# Altium schematic symbol library Transistor.SchLib: 9 symbols
Pins are listed as number, name and electrical type; pins without a type are passive.

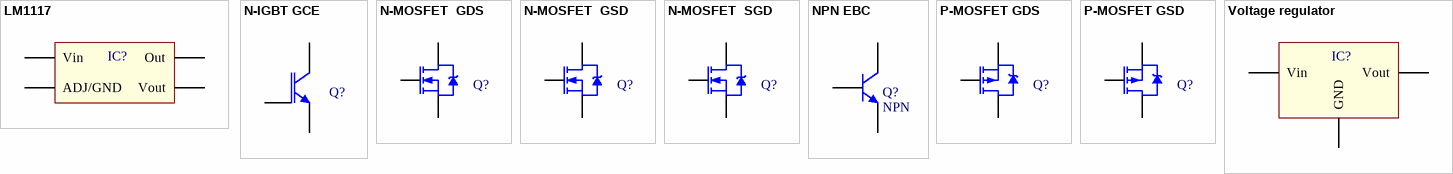
[diagram p0: symbols LM1117 to Voltage regulator]

## LM1117
designator IC?
Voltage regulator
footprint SOT 223 (SOT-223/SC-73; 4 Leads; Body 6.7 x 7.3 mm, inc. leads (LxW max))
pins: 1 ADJ/GND (power), 2 Out (power), 3 Vin (power), 4 Vout (power)

## N-IGBT GCE
designator Q?  (value not drawn)
footprint TO 220 (TO, Thru-Hole, Vertical, Heatsink Mounted; 3 In-Line Leads; Pitch 2.67 mm)
footprint TO 92 (TO, Flat Index; 3 In-Line, Axial Leads; Body Dia. 4.7mm; Leads 0.56 x 0.51 mm (max))
footprint SOT 23 (SOT23, 3-Leads, Body 2.9x1.3mm, Pitch 0.95mm, Lead Span 2.3mm - Reverse Pinning, IPC Low Density)
footprint TO 252AA (Surface moun; Pitch 2.28 mm)
footprint TO 251AA (TO, Thru-Hole, Vertical, 3 In-Line Leads; Pitch 2.28 mm)
pins: 1 G, 2 C, 3 E

## N-MOSFET  GDS
designator Q?, comment N-MOSFET  (value not drawn)
footprint TO 220 (TO, Thru-Hole, Vertical, Heatsink Mounted; 3 In-Line Leads; Pitch 2.67 mm)
footprint TO 92 (TO, Flat Index; 3 In-Line, Axial Leads; Body Dia. 4.7mm; Leads 0.56 x 0.51 mm (max))
footprint SOT 23 (SOT23, 3-Leads, Body 2.9x1.3mm, Pitch 0.95mm, Lead Span 2.3mm - Reverse Pinning, IPC Low Density)
footprint TO 252AA (Surface moun; Pitch 2.28 mm)
footprint TO 251AA (TO, Thru-Hole, Vertical, 3 In-Line Leads; Pitch 2.28 mm)
pins: 1 G, 2 D, 3 S

## N-MOSFET  GSD
designator Q?, comment N-MOSFET  (value not drawn)
footprint TO 220 (TO, Thru-Hole, Vertical, Heatsink Mounted; 3 In-Line Leads; Pitch 2.67 mm)
footprint TO 92 (TO, Flat Index; 3 In-Line, Axial Leads; Body Dia. 4.7mm; Leads 0.56 x 0.51 mm (max))
footprint SOT 23 (SOT23, 3-Leads, Body 2.9x1.3mm, Pitch 0.95mm, Lead Span 2.3mm - Reverse Pinning, IPC Low Density)
footprint TO 252AA (Surface moun; Pitch 2.28 mm)
footprint TO 251AA (TO, Thru-Hole, Vertical, 3 In-Line Leads; Pitch 2.28 mm)
pins: 1 G, 2 S, 3 D

## N-MOSFET  SGD
designator Q?, comment N-MOSFET  (value not drawn)
footprint TO 220 (TO, Thru-Hole, Vertical, Heatsink Mounted; 3 In-Line Leads; Pitch 2.67 mm)
footprint TO 92 (TO, Flat Index; 3 In-Line, Axial Leads; Body Dia. 4.7mm; Leads 0.56 x 0.51 mm (max))
footprint SOT 23 (SOT23, 3-Leads, Body 2.9x1.3mm, Pitch 0.95mm, Lead Span 2.3mm - Reverse Pinning, IPC Low Density)
footprint TO 252AA (Surface moun; Pitch 2.28 mm)
footprint TO 251AA (TO, Thru-Hole, Vertical, 3 In-Line Leads; Pitch 2.28 mm)
footprint PowerPAK SO
pins: 1 S, 2 G, 3 D

## NPN EBC
designator Q?, comment NPN
footprint TO 92 (TO, Flat Index; 3 In-Line, Axial Leads; Body Dia. 4.7mm; Leads 0.56 x 0.51 mm (max))
pins: 1 E, 2 B, 3 C

## P-MOSFET GDS
designator Q?, comment P-MOSFET  (value not drawn)
footprint TO 220 (TO, Thru-Hole, Vertical, Heatsink Mounted; 3 In-Line Leads; Pitch 2.67 mm)
footprint TO 92 (TO, Flat Index; 3 In-Line, Axial Leads; Body Dia. 4.7mm; Leads 0.56 x 0.51 mm (max))
footprint SOT 23 (SOT23, 3-Leads, Body 2.9x1.3mm, Pitch 0.95mm, Lead Span 2.3mm - Reverse Pinning, IPC Low Density)
footprint TO 251AA (TO, Thru-Hole, Vertical, 3 In-Line Leads; Pitch 2.28 mm)
footprint TO 252AA (Surface moun; Pitch 2.28 mm)
pins: 1 G, 2 D, 3 S

## P-MOSFET GSD
designator Q?, comment P-MOSFET  (value not drawn)
footprint TO 220 (TO, Thru-Hole, Vertical, Heatsink Mounted; 3 In-Line Leads; Pitch 2.67 mm)
footprint TO 92 (TO, Flat Index; 3 In-Line, Axial Leads; Body Dia. 4.7mm; Leads 0.56 x 0.51 mm (max))
footprint SOT 23 (SOT23, 3-Leads, Body 2.9x1.3mm, Pitch 0.95mm, Lead Span 2.3mm - Reverse Pinning, IPC Low Density)
footprint TO 251AA (TO, Thru-Hole, Vertical, 3 In-Line Leads; Pitch 2.28 mm)
footprint TO 252AA (Surface moun; Pitch 2.28 mm)
pins: 1 G, 2 D, 3 S

## Voltage regulator
designator IC?
In-Out-GND
footprint TO 252AA (Surface moun; Pitch 2.28 mm)
pins: 1 Vin (power), 2 GND (power), 3 Vout (power)